# Altium schematic symbol library ESP32-S2-MINI-2U.SchLib: 1 symbol
Pins are listed as number, name and electrical type; pins without a type are passive.

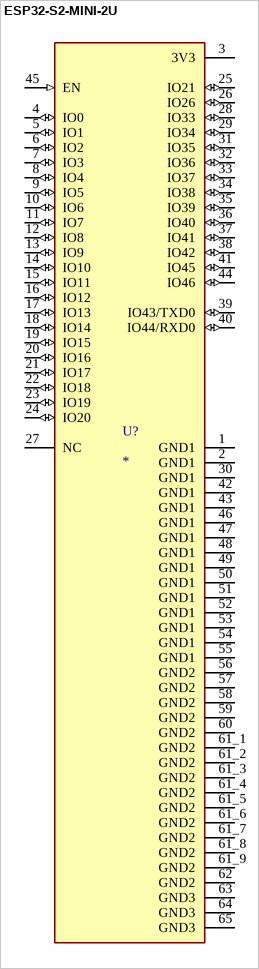
[diagram p0: symbol ESP32-S2-MINI-2U]

## ESP32-S2-MINI-2U
designator U?
ESP32-S2-MINI-2 is a powerful, generic Wi-Fi MCU modules, which integrates ESP32-S2 ECO1 with improved RF performance.; Manufacturer: ESPRESSIF; Flash: 4 MB; Antenna: IPEX antenna connector; Chip Embedded: S2FH4, S2FN4R2; Pin: 65; ComponentLink1Description: Datasheet; ComponentLink1URL: https://www.espressif.com/sites/default/files/documentation/esp32-s2-mini-2_esp32-s2-mini-2u_datasheet_en.pdf
footprint ESP32-S2-MINI-2U
pins: 1 GND1 (power), 2 GND1 (power), 3 3V3 (power), 4 IO0 (io), 5 IO1 (io), 6 IO2 (io), 7 IO3 (io), 8 IO4 (io), 9 IO5 (io), 10 IO6 (io), 11 IO7 (io), 12 IO8 (io), 13 IO9 (io), 14 IO10 (io), 15 IO11 (io), 16 IO12 (io), 17 IO13 (io), 18 IO14 (io), 19 IO15 (io), 20 IO16 (io), 21 IO17 (io), 22 IO18 (io), 23 IO19 (io), 24 IO20 (io), 25 IO21 (io), 26 IO26 (io), 27 NC, 28 IO33 (io), 29 IO34 (io), 30 GND1 (power), 31 IO35 (io), 32 IO36 (io), 33 IO37 (io), 34 IO38 (io), 35 IO39 (io), 36 IO40 (io), 37 IO41 (io), 38 IO42 (io), 39 IO43/TXD0 (io), 40 IO44/RXD0 (io), 41 IO45 (io), 42 GND1 (power), 43 GND1 (power), 44 IO46 (io), 45 EN (in), 46 GND1 (power), 47 GND1 (power), 48 GND1 (power), 49 GND1 (power), 50 GND1 (power), 51 GND1 (power), 52 GND1 (power), 53 GND1 (power), 54 GND1 (power), 55 GND1 (power), 56 GND2 (power), 57 GND2 (power), 58 GND2 (power), 59 GND2 (power), 60 GND2 (power), 61_1 GND2 (power), 61_2 GND2 (power), 61_3 GND2 (power), 61_4 GND2 (power), 61_5 GND2 (power), 61_6 GND2 (power), 61_7 GND2 (power), 61_8 GND2 (power), 61_9 GND2 (power), 62 GND2 (power), 63 GND3 (power), 64 GND3 (power), 65 GND3 (power)